# Altium schematic symbol library 2N3904BU.SchLib: 2 symbols
Pins are listed as number, name and electrical type; pins without a type are passive.

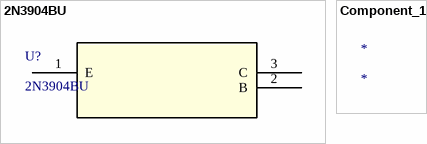
[diagram p0: symbols 2N3904BU to Component_1]

## 2N3904BU
designator U?
No Description Available; Manufacturer_Name: onsemi / Fairchild Semiconductor; Copyright: Copyright (C) 2026 Ultra Librarian. All rights reserved.; Manufacturer_Part_Number: 2N3904BU; RefDes: RefDes; Type: Type
footprint TO-92_FAS
pins: 1 E, 2 B, 3 C

## Component_1
designator *